# Altium footprint library SM_DFN2020-6_TYPEE.PcbLib: 1 footprints
Each footprint in its own frame and in the unit in brackets; x right, y up, seen from the top. Pads: shape width x height; smd on the part's side, far side on the other; paste and mask are expansions set on the pad; w line width, h text height; cw(c..) or ccw(c..) is an arc to the next point about the centre after c.
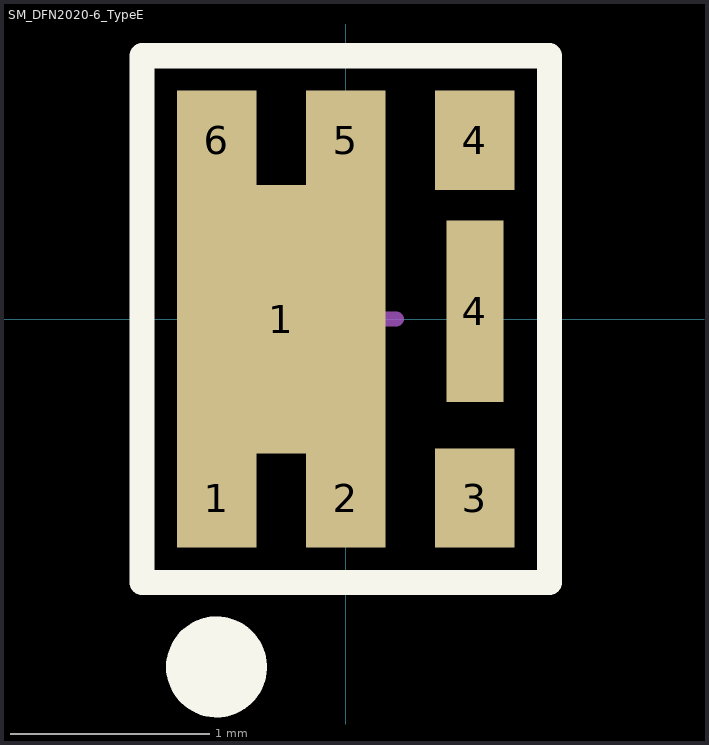
[diagram p0: the footprint, top view; thin cyan lines are the x and y axes]

## SM_DFN2020-6_TypeE [mm] "2mm x 2mm MOSFET"
pads (8):
  rect 0.4x0.5 smd mask+0.076: 1(-0.65,-0.9) 2(0,-0.9) 3(0.65,-0.9) 4(0.65,0.9) 5(0,0.9) 6(-0.65,0.9)
  rect 1.05x1.35 smd mask+0.076: 1(-0.325,0)
  rect 0.285x0.915 smd mask+0.076: 4(0.65,0.04)
Top Layer:
  region: 0.45,0.4
  region: 0.65,-0.9
Top Overlay:
  circle w0.254: c-0.65,-1.75 r0.127
  lines w0.127: -1.025,-1.325 1.025,-1.325 1.025,1.325 -1.025,1.325 -1.025,0.45 -1.025,-1.325
Mechanical 15:
  lines w0.076: -0.254,0 0.254,0 ; 0,-0.254 0,0.254 ; -1.025,-1.325 1.025,-1.325 1.025,1.325 -1.025,1.325 -1.025,-1.325
3D body: height 0.64, standoff 0.63, extent -0.899,-0.9 -0.601,-0.6
3D body: height 0.63, standoff 0, extent -1.025,-1.025 1.025,1.025